# EAGLE library part USB-MINIUSB-5P (library Connector)
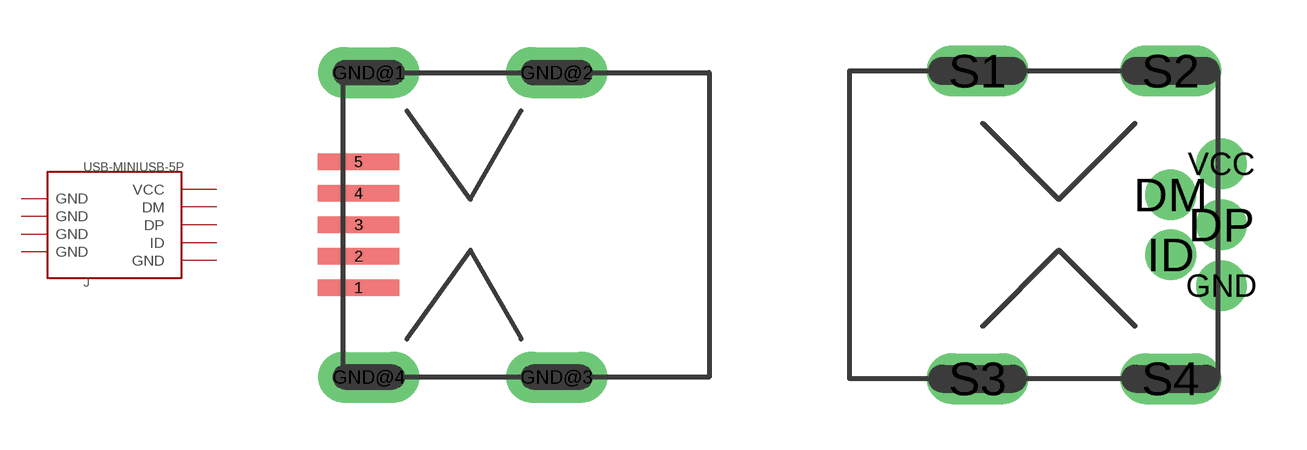
[diagram p34: symbol with the pads of MINI-SMD-5P; footprints MINI-SMD-5P, MINI-5P]

Designator prefix J

## USB-MINIUSB-5P-STRONG  [MINI-SMD-5P]
1  VCC
2  DM
3  DP
4  ID
5  GND
GND@1  GND
GND@2  GND
GND@3  GND
GND@4  GND

## USB-MINIUSB-5P  [MINI-5P]
DM  DM
DP  DP
GND  GND
ID  ID
S1  GND
S2  GND
S3  GND
S4  GND
VCC  VCC

## Footprint MINI-SMD-5P (pad centres in mm)
smd 2.032 x 0.406: 1 0.381,-1.575; 2 0.381,-0.787; 3 0.381,0; 4 0.381,0.787; 5 0.381,1.575
drill 0.635 pad 1.27 long: GND@1 0.635,3.81; GND@2 5.334,3.81; GND@3 5.334,-3.81; GND@4 0.635,-3.81

## Footprint MINI-5P (pad centres in mm)
drill 0.635 pad 1.27 round: DM -1.016,0.75; DP 0.254,0; GND 0.254,-1.524; ID -1.016,-0.75; VCC 0.254,1.524
drill 0.7 pad 1.27 long: S1 -5.842,3.85; S2 -1.016,3.85; S3 -5.842,-3.85; S4 -1.016,-3.85